# EAGLE library part DP-SINK (library LCD Connectors)
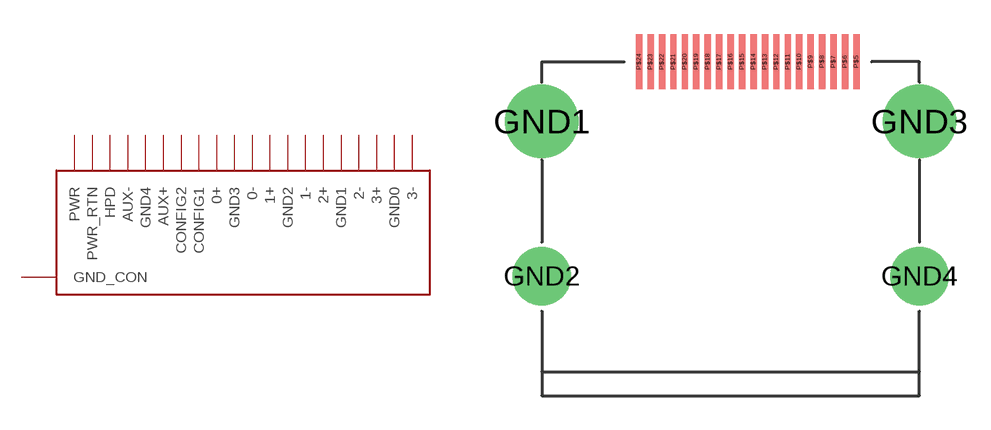
[diagram p4: symbol with the pads of MOLEX-47272-0001; footprint MOLEX-47272-0001]

Designator prefix -

## DP-SINK  [MOLEX-47272-0001]
GND1  GND_CON  pwr
GND2  GND_CON  pwr
GND3  GND_CON  pwr
GND4  GND_CON  pwr
P$5  3-  in
P$6  GND0  pwr
P$7  3+  in
P$8  2-  in
P$9  GND1  pwr
P$10  2+  in
P$11  1-  in
P$12  GND2  pwr
P$13  1+  in
P$14  0-  in
P$15  GND3  pwr
P$16  0+  in
P$17  CONFIG1
P$18  CONFIG2
P$19  AUX+
P$20  GND4  pwr
P$21  AUX-
P$22  HPD  out
P$23  PWR_RTN  pwr
P$24  PWR  pwr

## Footprint MOLEX-47272-0001 (pad centres in mm)
drill 2.2 pad 2.8: GND1 0,0; GND3 16.5,0
drill 1.7 pad 2.3: GND2 0,-6.78; GND4 16.5,-6.78
smd 0.28 x 2.4: P$5 13.75,2.6; P$6 13.25,2.6; P$7 12.75,2.6; P$8 12.25,2.6; P$9 11.75,2.6; P$10 11.25,2.6; P$11 10.75,2.6; P$12 10.25,2.6; P$13 9.75,2.6; P$14 9.25,2.6; P$15 8.75,2.6; P$16 8.25,2.6; P$17 7.75,2.6; P$18 7.25,2.6; P$19 6.75,2.6; P$20 6.25,2.6; P$21 5.75,2.6; P$22 5.25,2.6; P$23 4.75,2.6; P$24 4.25,2.6